# EAGLE library part 16-8-MUX (library RemoteParts)
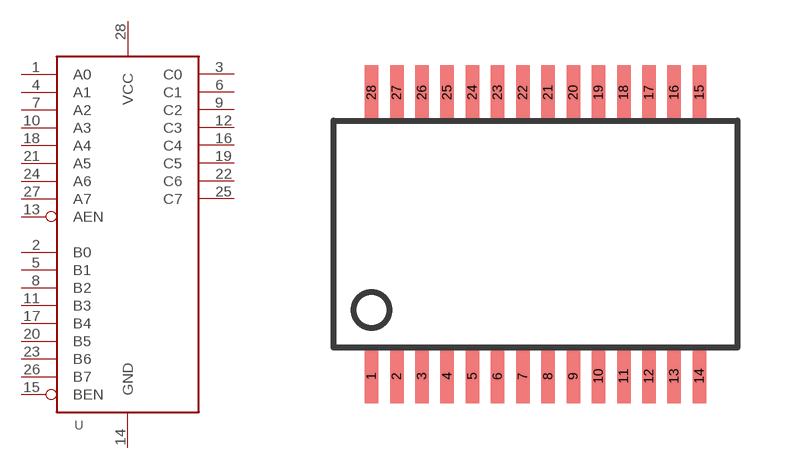
[diagram p0: symbol with the pads of SSOP28DB; footprint SSOP28DB]

Designator prefix -

## 16-8-MUX (CREATOR: Swanson; DIST: DIGIKEY; DISTPN: PI5C3390QEXDICT-ND; MOUNTING: SMD)  [SSOP28DB]
1  A0
2  B0
3  C0
4  A1
5  B1
6  C1
7  A2
8  B2
9  C2
10  A3
11  B3
12  C3
13  AEN
14  GND
15  BEN
16  C4
17  B4
18  A4
19  C5
20  B5
21  A5
22  C6
23  B6
24  A6
25  C7
26  B7
27  A7
28  VCC

## Footprint SSOP28DB (pad centres in mm)
Small Shrink Outline Package
smd 0.348 x 1.397: 1 -4.225,-3.656; 2 -3.575,-3.656; 3 -2.925,-3.656; 4 -2.275,-3.656; 5 -1.625,-3.656; 6 -0.975,-3.656; 7 -0.325,-3.656; 8 0.325,-3.656; 9 0.975,-3.656; 10 1.625,-3.656; 11 2.275,-3.656; 12 2.925,-3.656; 13 3.575,-3.656; 14 4.225,-3.656; 15 4.225,3.656; 16 3.575,3.656; 17 2.925,3.656; 18 2.275,3.656; 19 1.625,3.656; 20 0.975,3.656; 21 0.325,3.656; 22 -0.325,3.656; 23 -0.975,3.656; 24 -1.625,3.656; 25 -2.275,3.656; 26 -2.925,3.656; 27 -3.575,3.656; 28 -4.225,3.656